# Altium integrated library ADC5G-TDC-FMCP.IntLib: 45 symbols
Pins are listed as number, name and electrical type; pins without a type are passive.

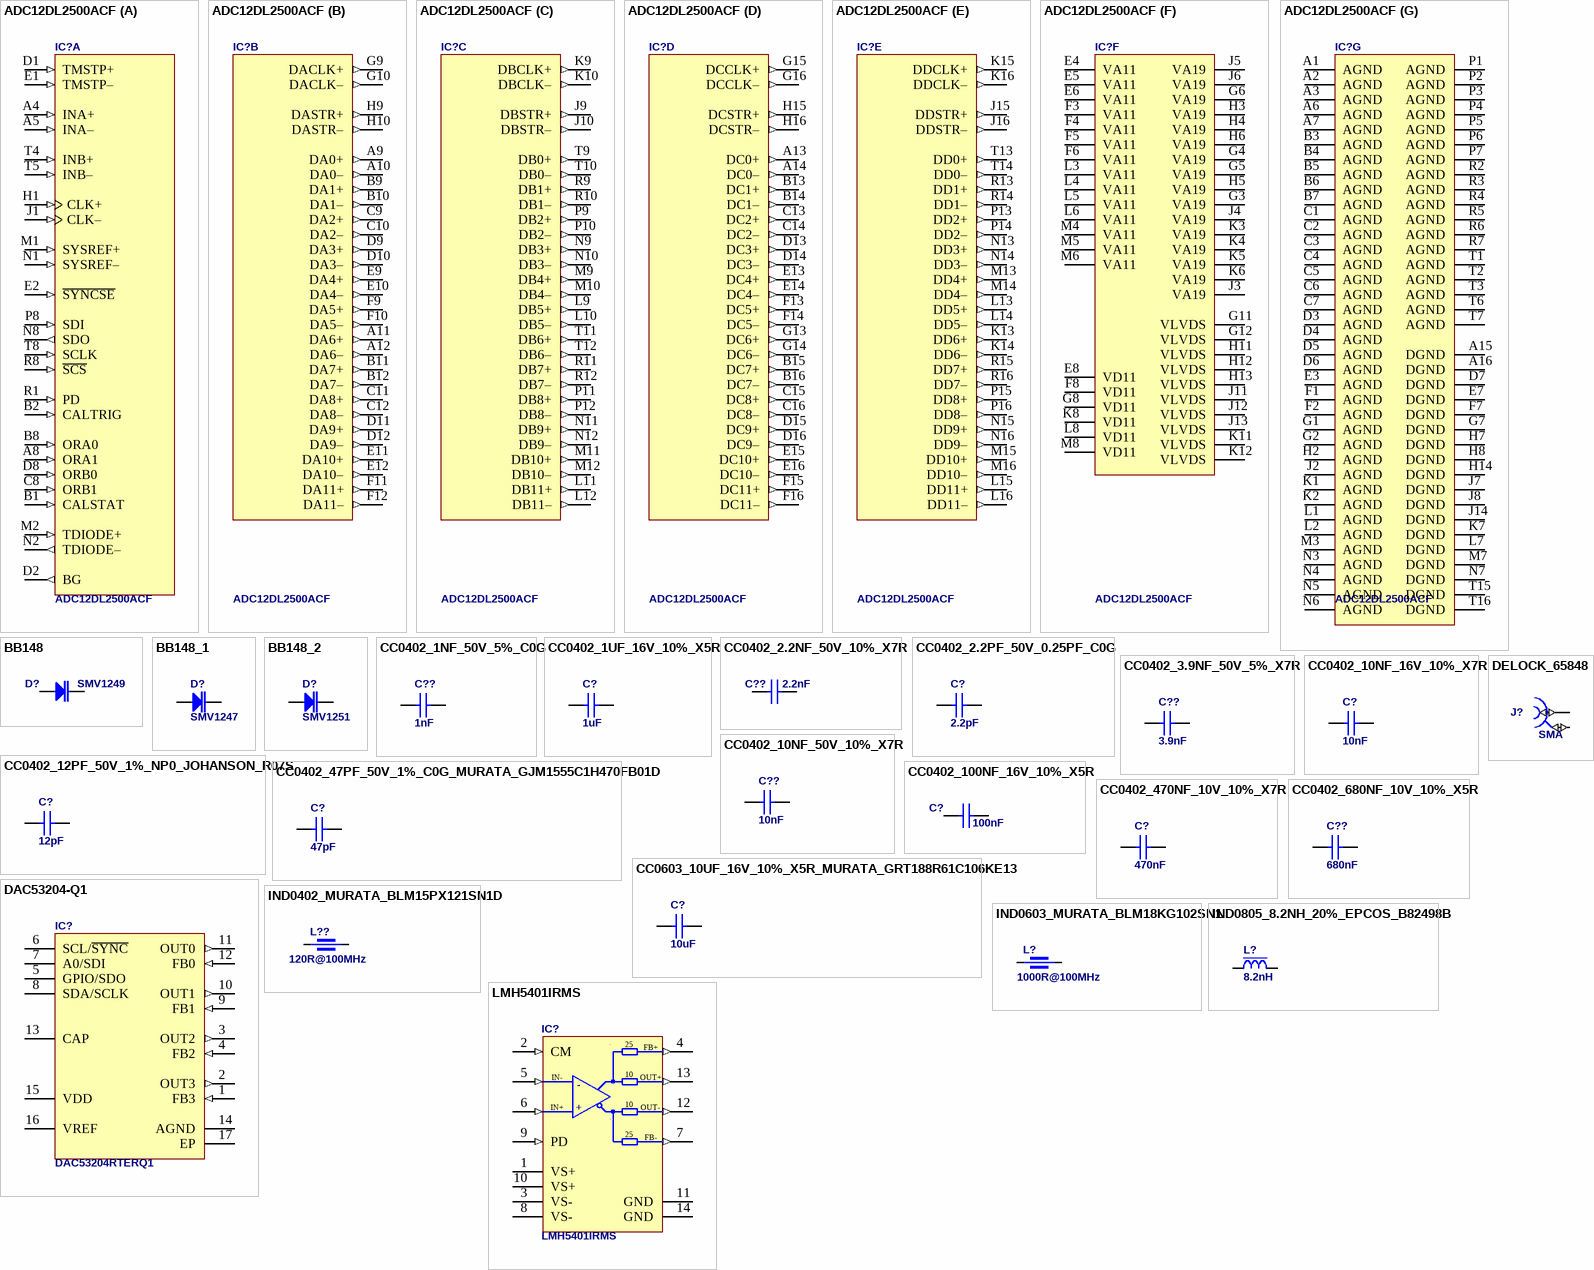
[diagram p0: symbols ADC12DL2500ACF to LMH5401IRMS]

## ADC12DL2500ACF
designator IC?
Single-Supply, Multichannel, 125kSPS, 24-Bit, Sigma-Delta ADC with ±10V Inputs; Part Description: 1.5 GSPS Dual-Channel or 1, 3, 5GSPS Single-Channel,12-Bit Analog-to-Digital Converters (ADC) With LVDS Interface; Manufacturer: TEXAS INSTRUMENTS; PressFit: No; Bonding: No; Part Number: ADC12DL2500ACF; Component Kind: Standard; Component Type: Standard; Device: ADC12DL2500ACF; Footprint: BGA256C100P16X16_1700X1700X331; PackageDescription: BGA, 1.00mm Pitch, Square; 156 Pin, 16 Columns X 16 Rows, 17.0mm X 17.0mm X 3.31mm H body, IPC Medium Density; Manufacturer Part Number: ADC12DL2500ACF; Pin Count: 256; Case: BGA256; Mounted: Yes; Socket: No; SMD: Yes; Sense: No; ComponentHeight: 3.31mm; Author: CERN DEM HF; HelpURL: \\cern.ch\dfs\Applications\Altium\Datasheets\ADC12DLX500ACF.pdf; CreateDate: 04.12.2024; LatestRevisionDate: 04.12.2024
footprint BGA256C100P16X16_1700X1700X331
part A pins: A4 INA+ (in), A5 INA– (in), A8 ORA1 (in), B1 CALSTAT (in), B2 CALTRIG (in), B8 ORA0 (in), C8 ORB1 (in), D1 TMSTP+ (in), D2 BG (out), D8 ORB0 (in), E1 TMSTP– (in), E2 ~{SYNCSE} (in), H1 CLK+ (in), J1 CLK– (in), M1 SYSREF+ (in), M2 TDIODE+ (in), N1 SYSREF– (in), N2 TDIODE– (out), N8 SDO (out), P8 SDI (in), R1 PD (in), R8 ~{SCS} (in), T4 INB+ (in), T5 INB– (in), T8 SCLK (in)
part B pins: A9 DA0+ (out), A10 DA0– (out), A11 DA6+ (out), A12 DA6– (out), B9 DA1+ (out), B10 DA1– (out), B11 DA7+ (out), B12 DA7– (out), C9 DA2+ (out), C10 DA2– (out), C11 DA8+ (out), C12 DA8– (out), D9 DA3+ (out), D10 DA3– (out), D11 DA9+ (out), D12 DA9– (out), E9 DA4+ (out), E10 DA4– (out), E11 DA10+ (out), E12 DA10– (out), F9 DA5+ (out), F10 DA5– (out), F11 DA11+ (out), F12 DA11– (out), G9 DACLK+ (out), G10 DACLK– (out), H9 DASTR+ (out), H10 DASTR– (out)
part C pins: J9 DBSTR+ (out), J10 DBSTR– (out), K9 DBCLK+ (out), K10 DBCLK– (out), L9 DB5+ (out), L10 DB5– (out), L11 DB11+ (out), L12 DB11– (out), M9 DB4+ (out), M10 DB4– (out), M11 DB10+ (out), M12 DB10– (out), N9 DB3+ (out), N10 DB3– (out), N11 DB9+ (out), N12 DB9– (out), P9 DB2+ (out), P10 DB2– (out), P11 DB8+ (out), P12 DB8– (out), R9 DB1+ (out), R10 DB1– (out), R11 DB7+ (out), R12 DB7– (out), T9 DB0+ (out), T10 DB0– (out), T11 DB6+ (out), T12 DB6– (out)
part D pins: A13 DC0+ (out), A14 DC0– (out), B13 DC1+ (out), B14 DC1– (out), B15 DC7+ (out), B16 DC7– (out), C13 DC2+ (out), C14 DC2– (out), C15 DC8+ (out), C16 DC8– (out), D13 DC3+ (out), D14 DC3– (out), D15 DC9+ (out), D16 DC9– (out), E13 DC4+ (out), E14 DC4– (out), E15 DC10+ (out), E16 DC10– (out), F13 DC5+ (out), F14 DC5– (out), F15 DC11+ (out), F16 DC11– (out), G13 DC6+ (out), G14 DC6– (out), G15 DCCLK+ (out), G16 DCCLK– (out), H15 DCSTR+ (out), H16 DCSTR– (out)
part E pins: J15 DDSTR+ (out), J16 DDSTR– (out), K13 DD6+ (out), K14 DD6– (out), K15 DDCLK+ (out), K16 DDCLK– (out), L13 DD5+ (out), L14 DD5– (out), L15 DD11+ (out), L16 DD11– (out), M13 DD4+ (out), M14 DD4– (out), M15 DD10+ (out), M16 DD10– (out), N13 DD3+ (out), N14 DD3– (out), N15 DD9+ (out), N16 DD9– (out), P13 DD2+ (out), P14 DD2– (out), P15 DD8+ (out), P16 DD8– (out), R13 DD1+ (out), R14 DD1– (out), R15 DD7+ (out), R16 DD7– (out), T13 DD0+ (out), T14 DD0– (out)
part F pins: E4 VA11 (power), E5 VA11 (power), E6 VA11 (power), E8 VD11 (power), F3 VA11 (power), F4 VA11 (power), F5 VA11 (power), F6 VA11 (power), F8 VD11 (power), G3 VA19 (power), G4 VA19 (power), G5 VA19 (power), G6 VA19 (power), G8 VD11 (power), G11 VLVDS (power), G12 VLVDS (power), H3 VA19 (power), H4 VA19 (power), H5 VA19 (power), H6 VA19 (power), H11 VLVDS (power), H12 VLVDS (power), H13 VLVDS (power), J3 VA19 (power), J4 VA19 (power), J5 VA19 (power), J6 VA19 (power), J11 VLVDS (power), J12 VLVDS (power), J13 VLVDS (power), K3 VA19 (power), K4 VA19 (power), K5 VA19 (power), K6 VA19 (power), K8 VD11 (power), K11 VLVDS (power), K12 VLVDS (power), L3 VA11 (power), L4 VA11 (power), L5 VA11 (power), L6 VA11 (power), L8 VD11 (power), M4 VA11 (power), M5 VA11 (power), M6 VA11 (power), M8 VD11 (power)
part G pins: A1 AGND (power), A2 AGND (power), A3 AGND (power), A6 AGND (power), A7 AGND (power), A15 DGND (power), A16 DGND (power), B3 AGND (power), B4 AGND (power), B5 AGND (power), B6 AGND (power), B7 AGND (power), C1 AGND (power), C2 AGND (power), C3 AGND (power), C4 AGND (power), C5 AGND (power), C6 AGND (power), C7 AGND (power), D3 AGND (power), D4 AGND (power), D5 AGND (power), D6 AGND (power), D7 DGND (power), E3 AGND (power), E7 DGND (power), F1 AGND (power), F2 AGND (power), F7 DGND (power), G1 AGND (power), G2 AGND (power), G7 DGND (power), H2 AGND (power), H7 DGND (power), H8 DGND (power), H14 DGND (power), J2 AGND (power), J7 DGND (power), J8 DGND (power), J14 DGND (power), K1 AGND (power), K2 AGND (power), K7 DGND (power), L1 AGND (power), L2 AGND (power), L7 DGND (power), M3 AGND (power), M7 DGND (power), N3 AGND (power), N4 AGND (power), N5 AGND (power), N6 AGND (power), N7 DGND (power), P1 AGND (power), P2 AGND (power), P3 AGND (power), P4 AGND (power), P5 AGND (power), P6 AGND (power), P7 AGND (power), R2 AGND (power), R3 AGND (power), R4 AGND (power), R5 AGND (power), R6 AGND (power), R7 AGND (power), T1 AGND (power), T2 AGND (power), T3 AGND (power), T6 AGND (power), T7 AGND (power), T15 DGND (power), T16 DGND (power)

## BB148
designator D?, comment SMV1249
Diode Varicap  Anode Pin 1 Cathode Pin 3 (Pas de pin 2); Part Number: BB148; Part Description: VHF Variable Capacitance Diode; Manufacturer: NXP SEMICONDUCTORS; Voltage: 30V; Power: 20mA; PressFit: No; Bonding: No; Component Kind: Standard; Component Type: Standard; Device: BB148; Footprint: SOD2512X110N; PackageDescription: Small Outline Diode (SOD-323), 1.70mm W X 1.25mm L X 1.10mm H body,  IPC Medium Density; Status: Obsolete; Manufacturer Part Number: BB148; Pin Count: 2; Case: SOD-323; Mounted: Yes; Socket: No; SMD: Yes; Sense: No; ComponentHeight: 1.1mm; HelpURL: \\cern.ch\dfs\Applications\Altium\Datasheets\BB148.pdf; Author: CERN DEM JLC; CreateDate: 13.01.2014; LatestRevisionDate: 13.01.2014
footprint SOD2512X110N
pins: 1 C, 2 A

## BB148_1
designator D?, comment SMV1247
Diode Varicap  Anode Pin 1 Cathode Pin 3 (Pas de pin 2); Part Number: BB148; Part Description: VHF Variable Capacitance Diode; Manufacturer: NXP SEMICONDUCTORS; Voltage: 30V; Power: 20mA; PressFit: No; Bonding: No; Component Kind: Standard; Component Type: Standard; Device: BB148; Footprint: SOD2512X110N; PackageDescription: Small Outline Diode (SOD-323), 1.70mm W X 1.25mm L X 1.10mm H body,  IPC Medium Density; Status: Obsolete; Manufacturer Part Number: BB148; Pin Count: 2; Case: SOD-323; Mounted: Yes; Socket: No; SMD: Yes; Sense: No; ComponentHeight: 1.1mm; HelpURL: \\cern.ch\dfs\Applications\Altium\Datasheets\BB148.pdf; Author: CERN DEM JLC; CreateDate: 13.01.2014; LatestRevisionDate: 13.01.2014
footprint SOD2512X110N
pins: 1 C, 2 A

## BB148_2
designator D?, comment SMV1251
Diode Varicap  Anode Pin 1 Cathode Pin 3 (Pas de pin 2); Part Number: BB148; Part Description: VHF Variable Capacitance Diode; Manufacturer: NXP SEMICONDUCTORS; Voltage: 30V; Power: 20mA; PressFit: No; Bonding: No; Component Kind: Standard; Component Type: Standard; Device: BB148; Footprint: SOD2512X110N; PackageDescription: Small Outline Diode (SOD-323), 1.70mm W X 1.25mm L X 1.10mm H body,  IPC Medium Density; Status: Obsolete; Manufacturer Part Number: BB148; Pin Count: 2; Case: SOD-323; Mounted: Yes; Socket: No; SMD: Yes; Sense: No; ComponentHeight: 1.1mm; HelpURL: \\cern.ch\dfs\Applications\Altium\Datasheets\BB148.pdf; Author: CERN DEM JLC; CreateDate: 13.01.2014; LatestRevisionDate: 13.01.2014
footprint SOD2512X110N
pins: 1 C, 2 A

## CC0402_1NF_50V_5%_C0G
designator C??, comment 1nF
Non-polarised capacitor; Part Number: CC0402_1NF_50V_5%_C0G; Part Description: SMD Multilayer Chip Ceramic Capacitor; Manufacturer: GENERIC; Manufacturer1 Part Number: C0402C102J5GACTU; Voltage: 50V; TC: C0G/NP0; Tolerance: ±5%; Component Kind: Standard; Component Type: Standard; Footprint: CAPC1005X55N; Pin Count: 2; Value: 1nF; Status: Preferred; Manufacturer Part Number: CC0402_1NF_50V_5%_C0G; Case: 0402; Mounted: Yes; Socket: No; SMD: Yes; Sense: No; Manufacturer1 Example: KEMET; Manufacturer1 ComponentHeight: 0.55mm; HelpURL: \\cern.ch\dfs\Applications\Altium\Datasheets\CC0402_C0G_KEMET_(Commercial Grade).pdf; Author: CERN DEM BC; CreateDate: 02.09.2019; LatestRevisionDate: 02.09.2019
footprint CAPC1005X55N
pins: 1, 2

## CC0402_1UF_16V_10%_X5R
designator C?, comment 1uF
Non-polarised capacitor; Part Number: CC0402_1UF_16V_10%_X5R; Part Description: SMD Multilayer Chip Ceramic Capacitor; Manufacturer: GENERIC; Manufacturer1 Part Number: C1005X5R1C105KT; Voltage: 16V; TC: X5R; Tolerance: ±10%; Component Kind: Standard; Component Type: Standard; Footprint: CAPC1005X55N; Pin Count: 2; Value: 1uF; Status: Preferred; Manufacturer Part Number: CC0402_1UF_16V_10%_X5R; Case: 0402; Mounted: Yes; Socket: No; SMD: Yes; Sense: No; Manufacturer1 Example: TDK; Manufacturer1 ComponentHeight: 0.55mm; HelpURL: \\cern.ch\dfs\Applications\Altium\Datasheets\CC0402_X5R_TDK_C.pdf; Author: CERN DEM JLC; CreateDate: 25.10.2012; LatestRevisionDate: 25.10.2012
footprint CAPC1005X55N
pins: 1, 2

## CC0402_2.2NF_50V_10%_X7R
designator C??, comment 2.2nF
Non-polarised capacitor; Part Number: CC0402_2.2NF_50V_10%_X7R; Part Description: SMD Multilayer Chip Ceramic Capacitor; Manufacturer: GENERIC; Manufacturer1 Part Number: 223858715627; Voltage: 50V; TC: X7R; Tolerance: ±10%; Component Kind: Standard; Component Type: Standard; Footprint: CAPC1005X55N; Pin Count: 2; Value: 2.2nF; Status: Not Recommended; Manufacturer Part Number: CC0402_2.2NF_50V_10%_X7R; Case: 0402; Mounted: Yes; Socket: No; SMD: Yes; Sense: No; Manufacturer1 Example: PHYCOMP; Manufacturer1 ComponentHeight: 0.55mm; HelpURL: \\cern.ch\dfs\Applications\Altium\Datasheets\CC0402_X7R_PHYCOMP.pdf; Author: CERN DEM JLC; CreateDate: 03.12.2007; LatestRevisionDate: 03.12.2007
footprint CAPC1005X55N
pins: 1, 2

## CC0402_2.2PF_50V_0.25PF_C0G
designator C?, comment 2.2pF
Non-polarised capacitor; Part Number: CC0402_2.2PF_50V_0.25PF_C0G; Part Description: SMD Multilayer Chip Ceramic Capacitor; Manufacturer: GENERIC; Manufacturer1 Part Number: C0402C229C5GACTU; Voltage: 50V; TC: C0G/NP0; Tolerance: ±0.25pF; Component Kind: Standard; Component Type: Standard; Footprint: CAPC1005X55N; Pin Count: 2; Value: 2.2pF; Status: Preferred; Manufacturer Part Number: CC0402_2.2PF_50V_0.25PF_C0G; Case: 0402; Mounted: Yes; Socket: No; SMD: Yes; Sense: No; Manufacturer1 Example: KEMET; Manufacturer1 ComponentHeight: 0.55mm; HelpURL: \\cern.ch\dfs\Applications\Altium\Datasheets\CC0402_C0G_KEMET_(Commercial Grade).pdf; Author: CERN DEM JLC; CreateDate: 03.12.2007; LatestRevisionDate: 22.04.2015
footprint CAPC1005X55N
pins: 1, 2

## CC0402_3.9NF_50V_5%_X7R
designator C??, comment 3.9nF
Non-polarised capacitor; Part Number: CC0402_3.9NF_50V_5%_X7R; Part Description: SMD Multilayer Chip Ceramic Capacitor; Manufacturer: GENERIC; Manufacturer1 Part Number: CC0402JRX7R9BB392; Voltage: 50V; TC: X7R; Tolerance: ±5%; Component Kind: Standard; Component Type: Standard; Footprint: CAPC1005X55N; Pin Count: 2; Value: 3.9nF; Status: Preferred; Manufacturer Part Number: CC0402_3.9NF_50V_5%_X7R; Case: 0402; Mounted: Yes; Socket: No; SMD: Yes; Sense: No; Manufacturer1 Example: YAGEO PHYCOMP; Manufacturer1 ComponentHeight: 0.55mm; HelpURL: \\cern.ch\dfs\Applications\Altium\Datasheets\CC0402_X7R_YAGEO_6.3VTO50V.pdf; Author: CERN DEM BC; CreateDate: 14.07.2020; LatestRevisionDate: 14.07.2020
footprint CAPC1005X55N
pins: 1, 2

## CC0402_10NF_16V_10%_X7R
designator C?, comment 10nF
Non-polarised capacitor; Part Number: CC0402_10NF_16V_10%_X7R; Part Description: SMD Multilayer Chip Ceramic Capacitor; Manufacturer: GENERIC; Manufacturer1 Part Number: 223878715636; Voltage: 16V; TC: X7R; Tolerance: ±10%; Component Kind: Standard; Component Type: Standard; Footprint: CAPC1005X55N; Pin Count: 2; Value: 10nF; Status: Not Recommended; Manufacturer Part Number: CC0402_10NF_16V_10%_X7R; Case: 0402; Mounted: Yes; Socket: No; SMD: Yes; Sense: No; Manufacturer1 Example: PHYCOMP; Manufacturer1 ComponentHeight: 0.55mm; HelpURL: \\cern.ch\dfs\Applications\Altium\Datasheets\CC0402_X7R_PHYCOMP.pdf; Author: CERN DEM JLC; CreateDate: 03.12.2007; LatestRevisionDate: 03.12.2007
footprint CAPC1005X55N
pins: 1, 2

## CC0402_10NF_50V_10%_X7R
designator C??, comment 10nF
Non-polarised capacitor; Part Number: CC0402_10NF_50V_10%_X7R; Part Description: SMD Multilayer Chip Ceramic Capacitor; Manufacturer: GENERIC; Manufacturer1 Part Number: GRM155R71H103KA88D; Voltage: 50V; TC: X7R; Tolerance: ±10%; Component Kind: Standard; Component Type: Standard; Footprint: CAPC1005X55N; Pin Count: 2; Value: 10nF; Status: None; Manufacturer Part Number: CC0402_10NF_50V_10%_X7R; Case: 0402; Mounted: Yes; Socket: No; SMD: Yes; Sense: No; Manufacturer1 Example: MURATA; Manufacturer1 ComponentHeight: 0.55mm; HelpURL: \\cern.ch\dfs\Applications\Altium\Datasheets\CC0402_X7R_MURATA_GRM.pdf; Author: CERN DEM MR; CreateDate: 08.01.2016; LatestRevisionDate: 08.01.2016
footprint CAPC1005X55N
pins: 1, 2

## CC0402_12PF_50V_1%_NP0_JOHANSON_R07S
designator C?, comment 12pF
Non-polarised capacitor; Part Number: CC0402_12PF_50V_1%_NP0_JOHANSON_R07S; Part Description: Ultra High-Q SMD Multilayer Capacitor; Manufacturer: JOHANSON TECHNOLOGY; Manufacturer Part Number: 500R07S120FV4T; Voltage: 50V; TC: C0G/NP0; Tolerance: ±1%; Component Kind: Standard; Component Type: Standard; Footprint: CAPC1005X61N; Pin Count: 2; Value: 12pF; Status: Not Recommended; Case: 0402; Mounted: Yes; Socket: No; SMD: Yes; Sense: No; ComponentHeight: 0.61mm; HelpURL: \\cern.ch\dfs\Applications\Altium\Datasheets\CC0402_NP0_JOHANSON_R07S.pdf; Author: CERN DEM BC; CreateDate: 20.11.2017; LatestRevisionDate: 26.09.2018
footprint CAPC1005X61N
pins: 1, 2

## CC0402_47PF_50V_1%_C0G_MURATA_GJM1555C1H470FB01D
designator C?, comment 47pF
Non-polarised capacitor; Part Number: CC0402_47PF_50V_1%_C0G_MURATA_GJM1555C1H470FB01D; Part Description: High-Q SMD Chip Monolithic Ceramic Capacitor; Manufacturer: MURATA; Manufacturer Part Number: GJM1555C1H470FB01; Voltage: 50V; TC: C0G/NP0; Tolerance: ±1%; Component Kind: Standard; Component Type: Standard; Footprint: CAPC1005X55N; Pin Count: 2; Value: 47pF; Status: None; Case: 0402; Mounted: Yes; Socket: No; SMD: Yes; Sense: No; ComponentHeight: 0.55mm; HelpURL: \\cern.ch\dfs\Applications\Altium\Datasheets\CC0402_MURATA_GJM1555C1H470FB01D.pdf; Author: CERN DEM BC; CreateDate: 20.11.2017; LatestRevisionDate: 20.11.2017
footprint CAPC1005X55N
pins: 1, 2

## CC0402_100NF_16V_10%_X5R
designator C?, comment 100nF
Non-polarised capacitor; Part Number: CC0402_100NF_16V_10%_X5R; Part Description: SMD Multilayer Chip Ceramic Capacitor; Manufacturer: GENERIC; Manufacturer1 Part Number: GRM155R61C104KA88D; Voltage: 16V; TC: X5R; Tolerance: ±10%; Component Kind: Standard; Component Type: Standard; Footprint: CAPC1005X55N; Pin Count: 2; Value: 100nF; Status: None; Manufacturer Part Number: CC0402_100NF_16V_10%_X5R; Case: 0402; Mounted: Yes; Socket: No; SMD: Yes; Sense: No; Manufacturer1 Example: MURATA; Manufacturer1 ComponentHeight: 0.55mm; HelpURL: \\cern.ch\dfs\Applications\Altium\Datasheets\CC0402_X5R_MURATA_GRM.pdf; Author: CERN DEM JLC; CreateDate: 10.12.2013; LatestRevisionDate: 10.12.2013
footprint CAPC1005X55N
pins: 1, 2

## CC0402_470NF_10V_10%_X7R
designator C?, comment 470nF
Non-polarised capacitor; Part Number: CC0402_470NF_10V_10%_X7R; Part Description: SMD Multilayer Chip Ceramic Capacitor; Manufacturer: GENERIC; Manufacturer1 Part Number: CC0402KRX7R6BB474; Voltage: 10V; TC: X7R; Tolerance: ±10%; Component Kind: Standard; Component Type: Standard; Footprint: CAPC1005X55N; Pin Count: 2; Value: 470nF; Status: Not Recommended; Manufacturer Part Number: CC0402_470NF_10V_10%_X7R; Case: 0402; Mounted: Yes; Socket: No; SMD: Yes; Sense: No; Manufacturer1 Example: YAGEO PHYCOMP; Manufacturer1 ComponentHeight: 0.55mm; HelpURL: \\cern.ch\dfs\Applications\Altium\Datasheets\CC0402_X7R_YAGEO_6.3VTO50V.pdf; Author: CERN DEM BC; CreateDate: 12.11.2019; LatestRevisionDate: 12.11.2019
footprint CAPC1005X55N
pins: 1, 2

## CC0402_680NF_10V_10%_X5R
designator C??, comment 680nF
Non-polarised capacitor; Part Number: CC0402_680NF_10V_10%_X5R; Part Description: SMD Multilayer Chip Ceramic Capacitor; Manufacturer: GENERIC; Manufacturer1 Part Number: GRM155R61A684KE15; Voltage: 10V; TC: X5R; Tolerance: ±10%; Component Kind: Standard; Component Type: Standard; Footprint: CAPC1005X55N; Pin Count: 2; Value: 680nF; Status: None; Manufacturer Part Number: CC0402_680NF_10V_10%_X5R; Case: 0402; Mounted: Yes; Socket: No; SMD: Yes; Sense: No; Manufacturer1 Example: MURATA; Manufacturer1 ComponentHeight: 0.55mm; HelpURL: \\cern.ch\dfs\Applications\Altium\Datasheets\CC0402_X5R_MURATA_GRM.pdf; Author: CERN DEM BC; CreateDate: 19.04.2021; LatestRevisionDate: 19.04.2021
footprint CAPC1005X55N
pins: 1, 2

## CC0603_10UF_16V_10%_X5R_MURATA_GRT188R61C106KE13
designator C?, comment 10uF
Non-polarised capacitor; Part Number: CC0603_10UF_16V_10%_X5R_MURATA_GRT188R61C106KE13; Part Description: AEC-Q200 Compliant Chip Multilayer Ceramic Capacitor; Manufacturer: MURATA; Manufacturer Part Number: GRT188R61C106KE13; Voltage: 16V; TC: X5R; Tolerance: ±10%; Component Kind: Standard; Component Type: Standard; Footprint: CAPC1608X90N; Pin Count: 2; Value: 10uF; Status: None; Case: 0603; Mounted: Yes; Socket: No; SMD: Yes; Sense: No; ComponentHeight: 0.9mm; HelpURL: \\cern.ch\dfs\Applications\Altium\Datasheets\CC0603_MURATA_GRT188R61C106KE13.pdf; Author: CERN DEM HF; CreateDate: 16.06.2022; LatestRevisionDate: 17.06.2022
footprint CAPC1608X90N
pins: 1, 2

## DAC53204-Q1
designator IC?, comment DAC53204RTERQ1
Digital to Analog Converters - DAC Automotive, 10-bit 4-channel voltage/current output smart DAC with Hi-Z, EEPROM, waveform generator 16-WQFN -40 to 125
pins: 1 FB3 (in), 2 OUT3 (out), 3 OUT2 (out), 4 FB2 (in), 5 GPIO/SDO, 6 SCL/~{SYNC}, 7 A0/SDI, 8 SDA/SCLK, 9 FB1 (in), 10 OUT1 (out), 11 OUT0 (out), 12 FB0 (in), 13 CAP, 14 AGND (power), 15 VDD (power), 16 VREF, 17 EP (power)

## DELOCK_65848
designator J?, comment SMA
50 Ohm Through Hole SMA Right Angle PCB Jack; Part Number: DELOCK_65848; Manufacturer: DELOCK; Manufacturer Part Number: 5848 (4043619658480); PressFit: No; Component Kind: Standard; Component Type: Standard; Footprint: DELOCK_65848; Pin Count: 5; Family: SMA; Mounted: Yes; Socket: No; SMD: No; Sense: No; Status: None; Part Description: 50 Ohm Through Hole SMA Right Angle PCB Jack; ComponentHeight: 12.5; HelpURL: \\cern.ch\dfs\Applications\Altium\Datasheets\AMPHENOL_132203-16.pdf; Author: GK; CreateDate: 13.05.2019; LatestRevisionDate: 13.05.2019
footprint DELOCK_65848 (Footprint not found)
pins: 1 (io), 2 (io)

## IND0402_MURATA_BLM15PX121SN1D
designator L??, comment 120R@100MHz
Part Number: IND0402_MURATA_BLM15PX121SN1D; Part Description: SMD EMIFIL Chip Ferrite Bead; Manufacturer: MURATA; Manufacturer Part Number: BLM15PX121SN1D; Power: 2A; Resistance: 0.055R; Tolerance: ±25%; Component Kind: Standard; Component Type: Standard; Footprint: INDC1005X55N; Pin Count: 2; Value: 120R@100MHz; Case: 0402; Mounted: Yes; Socket: No; SMD: Yes; Sense: No; ComponentHeight: 0.55mm; HelpURL: \\cern.ch\dfs\Applications\Altium\Datasheets\IND0402_MURATA_BLM15PX.pdf; Author: CERN DEM JMW; CreateDate: 19.02.2014; LatestRevisionDate: 25.10.2018
footprint INDC1005X55N
pins: 1, 2
1 alternate drawing of the same symbol

## IND0603_MURATA_BLM18KG102SN1
designator L?, comment 1000R@100MHz
Part Number: IND0603_MURATA_BLM18KG102SN1; Part Description: SMD Chip Ferrite Bead, Automotive; Manufacturer: MURATA; Manufacturer Part Number: BLM18KG102WH1; Power: 1A; Resistance: 0.2R; Tolerance: ±25%; Component Kind: Standard; Component Type: Standard; Footprint: INDC1608X95N; Pin Count: 2; Value: 1000R@100MHz; Case: 0603; Mounted: Yes; Socket: No; SMD: Yes; Sense: No; ComponentHeight: 0.95mm; HelpURL: \\cern.ch\dfs\Applications\Altium\Datasheets\IND0603_MURATA_BLM18KG102SN1.pdf; Author: CERN DEM HF; CreateDate: 15.12.2022; LatestRevisionDate: 15.12.2022
footprint INDC1608X95N
pins: 1, 2
1 alternate drawing of the same symbol

## IND0805_8.2NH_20%_EPCOS_B82498B
designator L?, comment 8.2nH
Inductor With Core; Part Number: IND0805_8.2NH_20%_EPCOS_B82498B; Part Description: SMT Inductor SIMID Series; Manufacturer: EPCOS; Manufacturer Part Number: B82498B3829M; Power: 700mA; Resistance: 0.06R; Tolerance: ±20%; Component Kind: Standard; Component Type: Standard; Footprint: INDC2014X145N; Pin Count: 2; Value: 8.2nH; Status: Preferred; Case: 0805; Mounted: Yes; Socket: No; SMD: Yes; Sense: No; ComponentHeight: 1.45mm; HelpURL: \\cern.ch\dfs\Applications\Altium\Datasheets\IND0805_EPCOS_B82498B.pdf; Author: CERN DEM JLC; CreateDate: 11.02.2008; LatestRevisionDate: 26.06.2008
footprint INDC2014X145N
pins: 1, 2

## LMH5401IRMS
designator IC?
Low-Noise, Low-Power, 8-GHz Fully Differential Amplifier; Manufacturer: TEXAS INSTRUMENTS; PressFit: No; Bonding: No; Part Number: LMH5401IRMS; Component Kind: Standard; Component Type: Standard; Device: LMH5401IRMS; Footprint: QFN50P250X250X60-14N; PackageDescription: QFN, 0.50mm Pitch, Square, 14 pin, 2.50mm L X 2.50mm W X 0.60mm H body, IPC Medium Density; Part Description: Low-Noise, Low-Power, 8-GHz Fully Differential Amplifier; Manufacturer Part Number: LMH5401IRMS; Pin Count: 14; Case: QFN14; Mounted: Yes; Socket: No; SMD: Yes; Sense: No; ComponentHeight: 0.6mm; Author: CERN DEM MR; HelpURL: \\cern.ch\dfs\Applications\Altium\Datasheets\LMH5401IRMS.pdf; CreateDate: 08.08.2019; LatestRevisionDate: 08.08.2019
footprint QFN50P250X250X60-14N
pins: 1 VS+ (power), 2 CM (in), 3 VS- (power), 4 FB+ (out), 5 IN- (in), 6 IN+ (in), 7 FB- (out), 8 VS- (power), 9 PD (in), 10 VS+ (power), 11 GND (power), 12 OUT- (out), 13 OUT+ (out), 14 GND (power)
text: 25; -; +

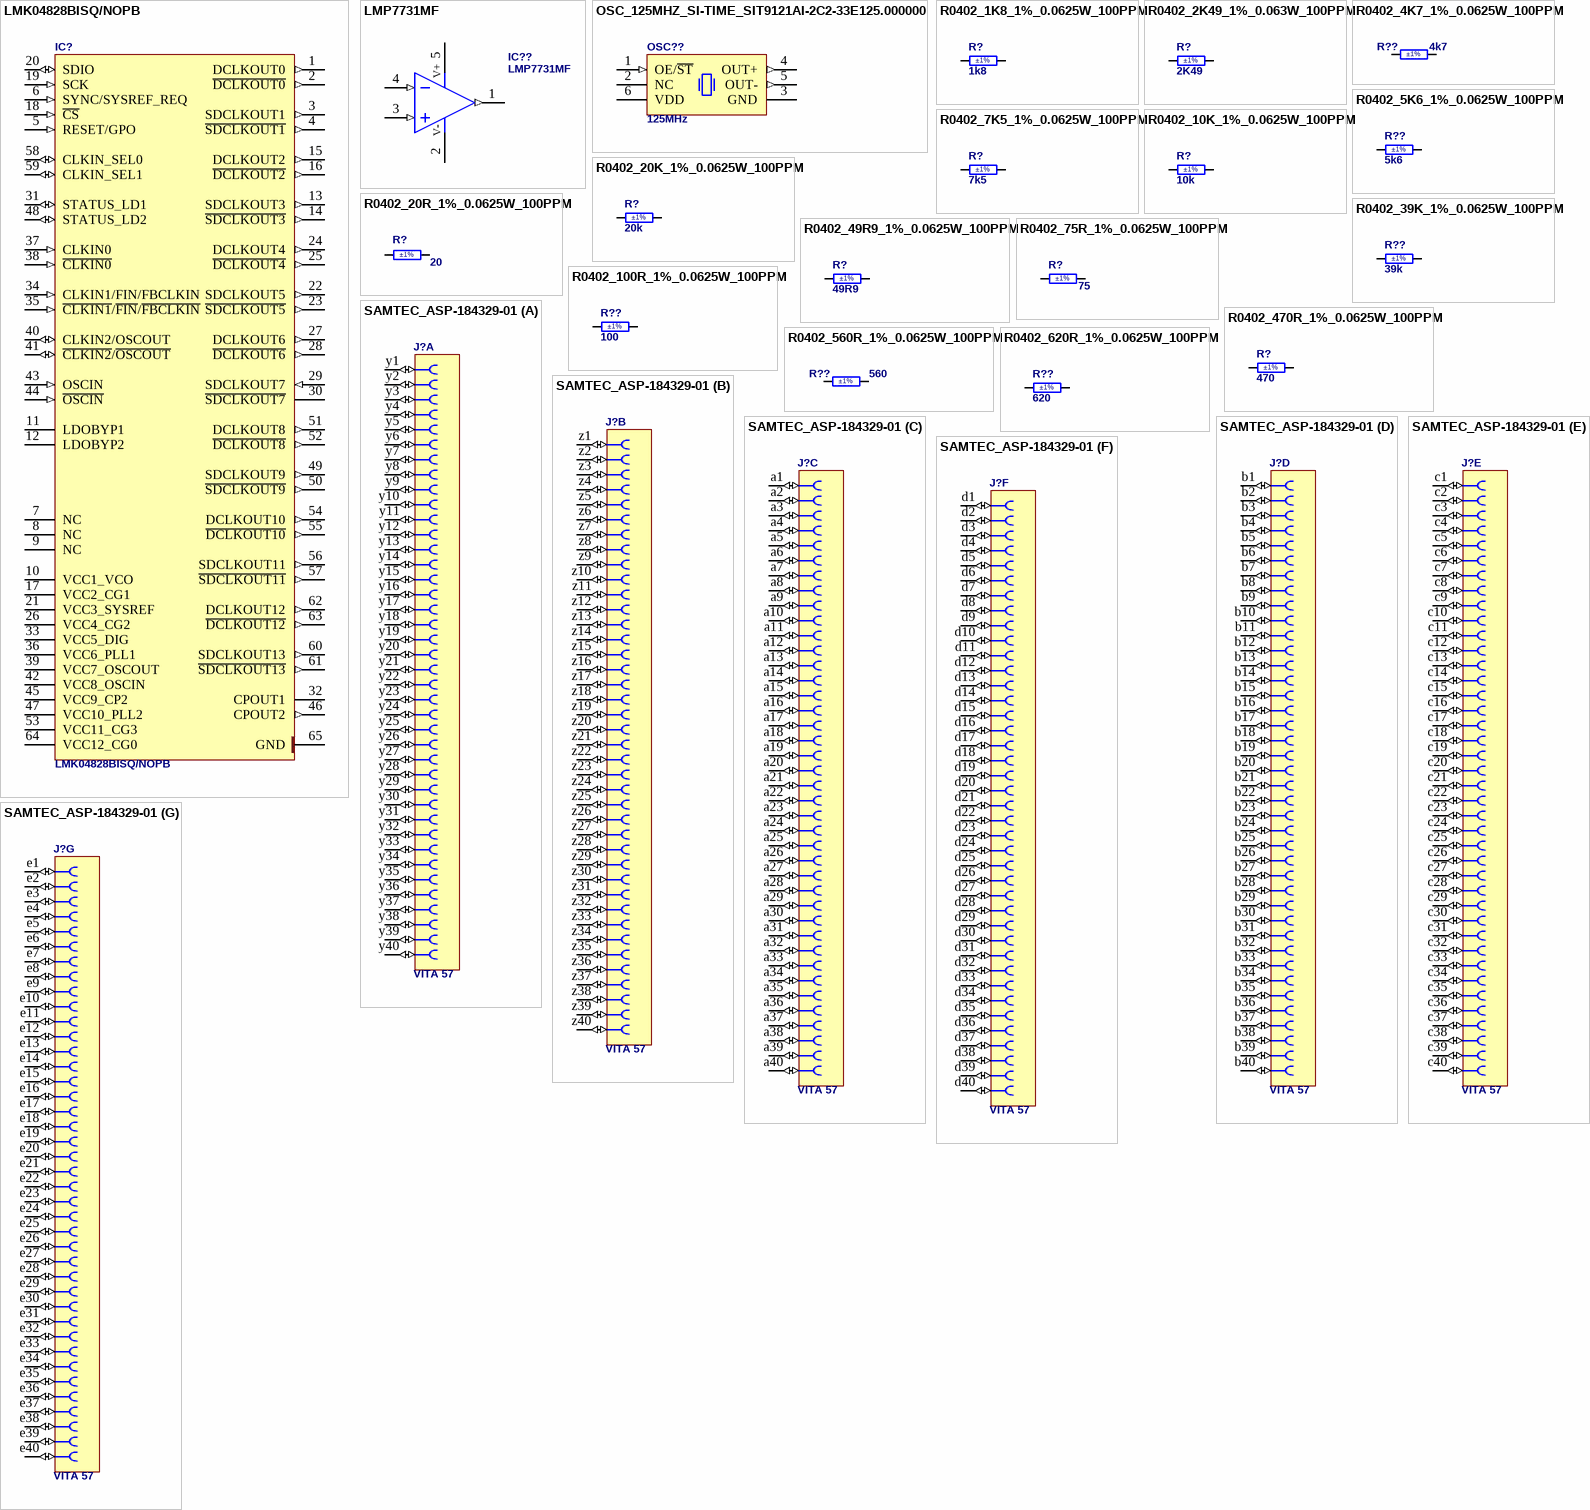
[diagram p1: symbols LMK04828BISQ/NOPB to SAMTEC_ASP-184329-01]

## LMK04828BISQ/NOPB
designator IC?
Ultra Low-Noise Clock Jitter Cleaner with Dual Loop PLLs; Manufacturer: TEXAS INSTRUMENTS; PressFit: No; Bonding: No; Part Number: LMK04828BISQ/NOPB; Component Kind: Standard; Component Type: Standard; Device: LMK04828BISQ/NOPB; Footprint: QFN50P900X900X80-65N-S730; PackageDescription: QFN, 0.50mm Pitch, Square; 64 Pin, 9.00mm L X 9.00mm W X 0.80mm H body (w/Thermal Tab 7.30 X 7.30mm), IPC Medium Density; Part Description: Ultra Low-Noise Clock Jitter Cleaner with Dual Loop PLLs; Manufacturer Part Number: LMK04828BISQ; Pin Count: 65; Case: QFN64; Mounted: Yes; Socket: No; SMD: Yes; Sense: No; ComponentHeight: 0.8mm; Author: CERN DEM MR; HelpURL: \\cern.ch\dfs\Applications\Altium\Datasheets\LMK04828BISQ-NOPB.pdf; CreateDate: 08.08.2019; LatestRevisionDate: 01.06.2022
footprint QFN50P900X900X80-65N-S730
pins: 1 DCLKOUT0 (out), 2 ~{DCLKOUT0} (out), 3 SDCLKOUT1 (out), 4 ~{SDCLKOUT1} (out), 5 RESET/GPO (in), 6 SYNC/SYSREF_REQ (in), 7 NC, 8 NC, 9 NC, 10 VCC1_VCO (power), 11 LDOBYP1, 12 LDOBYP2, 13 SDCLKOUT3 (out), 14 ~{SDCLKOUT3} (out), 15 DCLKOUT2 (out), 16 ~{DCLKOUT2} (out), 17 VCC2_CG1 (power), 18 ~{CS} (in), 19 SCK (in), 20 SDIO (io), 21 VCC3_SYSREF (power), 22 SDCLKOUT5 (out), 23 ~{SDCLKOUT5} (out), 24 DCLKOUT4 (out), 25 ~{DCLKOUT4} (out), 26 VCC4_CG2 (power), 27 DCLKOUT6 (out), 28 ~{DCLKOUT6} (out), 29 SDCLKOUT7 (in), 30 ~{SDCLKOUT7} (power), 31 STATUS_LD1 (io), 32 CPOUT1, 33 VCC5_DIG (power), 34 CLKIN1/FIN/FBCLKIN (in), 35 ~{CLKIN1}/~{FIN}/~{FBCLKIN} (in), 36 VCC6_PLL1 (power), 37 CLKIN0 (in), 38 ~{CLKIN0} (in), 39 VCC7_OSCOUT (power), 40 CLKIN2/OSCOUT (io), 41 ~{CLKIN2}/~{OSCOUT} (io), 42 VCC8_OSCIN (power), 43 OSCIN (in), 44 ~{OSCIN} (in), 45 VCC9_CP2 (power), 46 CPOUT2 (out), 47 VCC10_PLL2 (power), 48 STATUS_LD2 (io), 49 SDCLKOUT9 (out), 50 ~{SDCLKOUT9} (out), 51 DCLKOUT8 (out), 52 ~{DCLKOUT8} (out), 53 VCC11_CG3 (power), 54 DCLKOUT10 (out), 55 ~{DCLKOUT10} (out), 56 SDCLKOUT11 (out), 57 ~{SDCLKOUT11} (out), 58 CLKIN_SEL0 (io), 59 CLKIN_SEL1 (io), 60 SDCLKOUT13 (out), 61 ~{SDCLKOUT13} (out), 62 DCLKOUT12 (out), 63 ~{DCLKOUT12} (out), 64 VCC12_CG0 (power), 65 GND (power)

## LMP7731MF
designator IC??
Single 2.9 nV/sqrt(Hz) Low Noise, Precision, Rail-to-Rail Input/Output Amplifier; Manufacturer: TEXAS INSTRUMENTS; PressFit: No; Bonding: No; Part Number: LMP7731MF; Component Kind: Standard; Component Type: Standard; Device: LMP7731MF; Footprint: SOT95P280X145-5N; PackageDescription: SOT, 0.95mm Pitch; 5 Pin, 1.60mm W X 2.90mm L X 1.45mm H body, IPC Medium Density; Part Description: Single 2.9 nV/sqrt(Hz) Low Noise, Precision, Rail-to-Rail Input/Output Amplifier; Manufacturer Part Number: LMP7731MF; Pin Count: 5; Case: SOT23-5; Mounted: Yes; Socket: No; SMD: Yes; Sense: No; ComponentHeight: 1.45mm; Author: CERN DEM HF; HelpURL: \\cern.ch\dfs\Applications\Altium\Datasheets\LMP7731.pdf; CreateDate: 09.05.2022; LatestRevisionDate: 09.05.2022
footprint SOT95P280X145-5N
pins: 1 OUT (out), 2 V- (power), 3 IN+ (in), 4 IN- (in), 5 V+ (power)
1 alternate drawing of the same symbol

## OSC_125MHZ_SI-TIME_SIT9121AI-2C2-33E125.000000
designator OSC??, comment 125MHz
Standard Frequency Differential Oscillator; Part Number: OSC_125MHZ_SI-TIME_SIT9121AI-2C2-33E125.000000; Part Description: 3.3V, ±25ppm, -40..85°C, 3.2x5.0mm Surface Mount LVDS High Performance Differential Oscillator (SIT9121 Series); Manufacturer: SI TIME; Manufacturer Part Number: SIT9121AI-2C2-33E125.000000; PressFit: No; Bonding: No; Component Kind: Standard; Component Type: Standard; Footprint: OSC_SI-TIME_SIT9121-C; PackageDescription: SiT9121 Series Package C, Oscillators, Version 3.2.0mm x 5.0mm, Pitch 1.27mm; 6 Pin; Value: 125MHz; Pin Count: 6; Mounted: Yes; Socket: No; SMD: Yes; Sense: No; ComponentHeight: 0.8mm; HelpURL: \\cern.ch\dfs\Applications\Altium\Datasheets\OSC_SI-TIME_SIT9121.pdf; Author: CERN DEM HF; CreateDate: 06.12.2024; LatestRevisionDate: 06.12.2024
footprint OSC_SI-TIME_SIT9121-C
pins: 1 OE/~{ST} (in), 2 NC, 3 GND (power), 4 OUT+ (out), 5 OUT- (out), 6 VDD (power)

## R0402_1K8_1%_0.0625W_100PPM
designator R?, comment 1k8  Tolerance: ±1%
Resistor - 1%; Part Number: R0402_1K8_1%_0.0625W_100PPM; Part Description: General Purpose Thick Film Chip Resistor; Manufacturer: GENERIC; Manufacturer1 Part Number: 232270671802L; Power: 0.0625W; TC: ±100ppm/°C; PressFit: No; Component Kind: Standard; Component Type: Standard; Footprint: RESC1005X40N; Pin Count: 2; Value: 1k8; Status: Not Recommended; Manufacturer Part Number: R0402_1K8_1%_0.0625W_100PPM; Case: 0402; Mounted: Yes; Sense: No; Socket: No; SMD: Yes; Manufacturer1 Example: YAGEO PHYCOMP; Manufacturer1 ComponentHeight: 0.4mm; HelpURL: \\cern.ch\dfs\Applications\Altium\Datasheets\R0402_Phycomp_RC0402.pdf; Author: CERN DEM JLC; CreateDate: 03.12.2007; LatestRevisionDate: 17.10.2012
footprint RESC1005X40N
pins: 1, 2

## R0402_2K49_1%_0.063W_100PPM
designator R?, comment 2K49  Tolerance: ±1%
Resistor - 1%; Part Number: R0402_2K49_1%_0.063W_100PPM; Part Description: General Purpose Thick Film Chip Resistor; Manufacturer: GENERIC; Manufacturer1 Part Number: CRCW04022K49FK; Power: 0.063W; TC: ±100ppm/°C; PressFit: No; Component Kind: Standard; Component Type: Standard; Footprint: RESC1005X40N; Pin Count: 2; Value: 2K49; Status: None; Manufacturer Part Number: R0402_2K49_1%_0.063W_100PPM; Case: 0402; Mounted: Yes; Sense: No; Socket: No; SMD: Yes; Manufacturer1 Example: VISHAY; Manufacturer1 ComponentHeight: 0.4mm; HelpURL: \\cern.ch\dfs\Applications\Altium\Datasheets\R0402_VISHAY_CRCW e3.pdf; Author: CERN DEM BC; CreateDate: 10.01.2020; LatestRevisionDate: 10.01.2020
footprint RESC1005X40N
pins: 1, 2

## R0402_4K7_1%_0.0625W_100PPM
designator R??, comment 4k7  Tolerance: ±1%
Resistor - 1%; Part Number: R0402_4K7_1%_0.0625W_100PPM; Part Description: General Purpose Thick Film Chip Resistor; Manufacturer: GENERIC; Manufacturer1 Part Number: 232270674702L; Power: 0.0625W; TC: ±100ppm/°C; PressFit: No; Component Kind: Standard; Component Type: Standard; Footprint: RESC1005X40N; Pin Count: 2; Value: 4k7; Status: Not Recommended; Manufacturer Part Number: R0402_4K7_1%_0.0625W_100PPM; Case: 0402; Mounted: Yes; Sense: No; Socket: No; SMD: Yes; Manufacturer1 Example: YAGEO PHYCOMP; Manufacturer1 ComponentHeight: 0.4mm; HelpURL: \\cern.ch\dfs\Applications\Altium\Datasheets\R0402_Phycomp_RC0402.pdf; Author: CERN DEM JLC; CreateDate: 03.12.2007; LatestRevisionDate: 17.10.2012
footprint RESC1005X40N
pins: 1, 2

## R0402_5K6_1%_0.0625W_100PPM
designator R??, comment 5k6  Tolerance: ±1%
Resistor - 1%; Part Number: R0402_5K6_1%_0.0625W_100PPM; Part Description: General Purpose Thick Film Chip Resistor; Manufacturer: GENERIC; Manufacturer1 Part Number: 232270675602L; Power: 0.0625W; TC: ±100ppm/°C; PressFit: No; Component Kind: Standard; Component Type: Standard; Footprint: RESC1005X40N; Pin Count: 2; Value: 5k6; Status: Not Recommended; Manufacturer Part Number: R0402_5K6_1%_0.0625W_100PPM; Case: 0402; Mounted: Yes; Sense: No; Socket: No; SMD: Yes; Manufacturer1 Example: YAGEO PHYCOMP; Manufacturer1 ComponentHeight: 0.4mm; HelpURL: \\cern.ch\dfs\Applications\Altium\Datasheets\R0402_Phycomp_RC0402.pdf; Author: CERN DEM JLC; CreateDate: 03.12.2007; LatestRevisionDate: 17.10.2012
footprint RESC1005X40N
pins: 1, 2

## R0402_7K5_1%_0.0625W_100PPM
designator R?, comment 7k5  Tolerance: ±1%
Resistor - 1%; Part Number: R0402_7K5_1%_0.0625W_100PPM; Part Description: General Purpose Thick Film Chip Resistor; Manufacturer: GENERIC; Manufacturer1 Part Number: 232270677502L; Power: 0.0625W; TC: ±100ppm/°C; PressFit: No; Component Kind: Standard; Component Type: Standard; Footprint: RESC1005X40N; Pin Count: 2; Value: 7k5; Status: Not Recommended; Manufacturer Part Number: R0402_7K5_1%_0.0625W_100PPM; Case: 0402; Mounted: Yes; Sense: No; Socket: No; SMD: Yes; Manufacturer1 Example: YAGEO PHYCOMP; Manufacturer1 ComponentHeight: 0.4mm; HelpURL: \\cern.ch\dfs\Applications\Altium\Datasheets\R0402_Phycomp_RC0402.pdf; Author: CERN DEM JLC; CreateDate: 03.12.2007; LatestRevisionDate: 17.10.2012
footprint RESC1005X40N
pins: 1, 2

## R0402_10K_1%_0.0625W_100PPM
designator R?, comment 10k  Tolerance: ±1%
Resistor - 1%; Part Number: R0402_10K_1%_0.0625W_100PPM; Part Description: General Purpose Thick Film Chip Resistor; Manufacturer: GENERIC; Manufacturer1 Part Number: 232270671003L; Power: 0.0625W; TC: ±100ppm/°C; PressFit: No; Component Kind: Standard; Component Type: Standard; Footprint: RESC1005X40N; Pin Count: 2; Value: 10k; Status: Not Recommended; Manufacturer Part Number: R0402_10K_1%_0.0625W_100PPM; Case: 0402; Mounted: Yes; Sense: No; Socket: No; SMD: Yes; Manufacturer1 Example: YAGEO PHYCOMP; Manufacturer1 ComponentHeight: 0.4mm; HelpURL: \\cern.ch\dfs\Applications\Altium\Datasheets\R0402_Phycomp_RC0402.pdf; Author: CERN DEM JLC; CreateDate: 03.12.2007; LatestRevisionDate: 17.10.2012
footprint RESC1005X40N
pins: 1, 2

## R0402_20K_1%_0.0625W_100PPM
designator R?, comment 20k  Tolerance: ±1%
Resistor - 1%; Part Number: R0402_20K_1%_0.0625W_100PPM; Part Description: General Purpose Thick Film Chip Resistor; Manufacturer: GENERIC; Manufacturer1 Part Number: 232270672003L; Power: 0.0625W; TC: ±100ppm/°C; PressFit: No; Component Kind: Standard; Component Type: Standard; Footprint: RESC1005X40N; Pin Count: 2; Value: 20k; Status: Not Recommended; Manufacturer Part Number: R0402_20K_1%_0.0625W_100PPM; Case: 0402; Mounted: Yes; Sense: No; Socket: No; SMD: Yes; Manufacturer1 Example: YAGEO PHYCOMP; Manufacturer1 ComponentHeight: 0.4mm; HelpURL: \\cern.ch\dfs\Applications\Altium\Datasheets\R0402_Phycomp_RC0402.pdf; Author: CERN DEM JLC; CreateDate: 03.12.2007; LatestRevisionDate: 17.10.2012
footprint RESC1005X40N
pins: 1, 2

## R0402_20R_1%_0.0625W_100PPM
designator R?, comment 20  Tolerance: ±1%
Resistor - 1%; Part Number: R0402_20R_1%_0.0625W_100PPM; Part Description: General Purpose Thick Film Chip Resistor; Manufacturer: GENERIC; Manufacturer1 Part Number: 232270672009L; Power: 0.0625W; TC: ±100ppm/°C; PressFit: No; Component Kind: Standard; Component Type: Standard; Footprint: RESC1005X40N; Pin Count: 2; Value: 20; Status: Not Recommended; Manufacturer Part Number: R0402_20R_1%_0.0625W_100PPM; Case: 0402; Mounted: Yes; Sense: No; Socket: No; SMD: Yes; Manufacturer1 Example: YAGEO PHYCOMP; Manufacturer1 ComponentHeight: 0.4mm; HelpURL: \\cern.ch\dfs\Applications\Altium\Datasheets\R0402_Phycomp_RC0402.pdf; Author: CERN DEM JLC; CreateDate: 03.12.2007; LatestRevisionDate: 17.10.2012
footprint RESC1005X40N
pins: 1, 2

## R0402_39K_1%_0.0625W_100PPM
designator R??, comment 39k  Tolerance: ±1%
Resistor - 1%; Part Number: R0402_39K_1%_0.0625W_100PPM; Part Description: General Purpose Thick Film Chip Resistor; Manufacturer: GENERIC; Manufacturer1 Part Number: 232270673903; Power: 0.0625W; TC: ±100ppm/°C; PressFit: No; Component Kind: Standard; Component Type: Standard; Footprint: RESC1005X40N; Pin Count: 2; Value: 39k; Status: Not Recommended; Manufacturer Part Number: R0402_39K_1%_0.0625W_100PPM; Case: 0402; Mounted: Yes; Sense: No; Socket: No; SMD: Yes; Manufacturer1 Example: YAGEO PHYCOMP; Manufacturer1 ComponentHeight: 0.4mm; HelpURL: \\cern.ch\dfs\Applications\Altium\Datasheets\R0402_Phycomp_RC0402.pdf; Author: CERN DEM JLC; CreateDate: 03.12.2007; LatestRevisionDate: 17.10.2012
footprint RESC1005X40N
pins: 1, 2

## R0402_49R9_1%_0.0625W_100PPM
designator R?, comment 49R9  Tolerance: ±1%
Resistor - 1%; Part Number: R0402_49R9_1%_0.0625W_100PPM; Part Description: General Purpose Thick Film Chip Resistor; Manufacturer: GENERIC; Manufacturer1 Part Number: 232270674999L or RC0402FR-0749R9L; Power: 0.0625W; TC: ±100ppm/°C; PressFit: No; Component Kind: Standard; Component Type: Standard; Footprint: RESC1005X40N; Pin Count: 2; Value: 49R9; Status: Not Recommended; Manufacturer Part Number: R0402_49R9_1%_0.0625W_100PPM; Case: 0402; Mounted: Yes; Sense: No; Socket: No; SMD: Yes; Manufacturer1 Example: YAGEO PHYCOMP; Manufacturer1 ComponentHeight: 0.4mm; HelpURL: \\cern.ch\dfs\Applications\Altium\Datasheets\R0402_Phycomp_RC0402.pdf; Author: CERN DEM JLC; CreateDate: 24.10.2012; LatestRevisionDate: 24.10.2012
footprint RESC1005X40N
pins: 1, 2

## R0402_75R_1%_0.0625W_100PPM
designator R?, comment 75  Tolerance: ±1%
Resistor - 1%; Part Number: R0402_75R_1%_0.0625W_100PPM; Part Description: General Purpose Thick Film Chip Resistor; Manufacturer: GENERIC; Manufacturer1 Part Number: 232270677509L; Power: 0.0625W; TC: ±100ppm/°C; PressFit: No; Component Kind: Standard; Component Type: Standard; Footprint: RESC1005X40N; Pin Count: 2; Value: 75; Status: Not Recommended; Manufacturer Part Number: R0402_75R_1%_0.0625W_100PPM; Case: 0402; Mounted: Yes; Sense: No; Socket: No; SMD: Yes; Manufacturer1 Example: YAGEO PHYCOMP; Manufacturer1 ComponentHeight: 0.4mm; HelpURL: \\cern.ch\dfs\Applications\Altium\Datasheets\R0402_Phycomp_RC0402.pdf; Author: CERN DEM JLC; CreateDate: 03.12.2007; LatestRevisionDate: 17.10.2012
footprint RESC1005X40N
pins: 1, 2

## R0402_100R_1%_0.0625W_100PPM
designator R??, comment 100  Tolerance: ±1%
Resistor - 1%; Part Number: R0402_100R_1%_0.0625W_100PPM; Part Description: General Purpose Thick Film Chip Resistor; Manufacturer: GENERIC; Manufacturer1 Part Number: 232270671001L; Power: 0.0625W; TC: ±100ppm/°C; PressFit: No; Component Kind: Standard; Component Type: Standard; Footprint: RESC1005X40N; Pin Count: 2; Value: 100; Status: Not Recommended; Manufacturer Part Number: R0402_100R_1%_0.0625W_100PPM; Case: 0402; Mounted: Yes; Sense: No; Socket: No; SMD: Yes; Manufacturer1 Example: YAGEO PHYCOMP; Manufacturer1 ComponentHeight: 0.4mm; HelpURL: \\cern.ch\dfs\Applications\Altium\Datasheets\R0402_Phycomp_RC0402.pdf; Author: CERN DEM JLC; CreateDate: 03.12.2007; LatestRevisionDate: 17.10.2012
footprint RESC1005X40N
pins: 1, 2

## R0402_470R_1%_0.0625W_100PPM
designator R?, comment 470  Tolerance: ±1%
Resistor - 1%; Part Number: R0402_470R_1%_0.0625W_100PPM; Part Description: General Purpose Thick Film Chip Resistor; Manufacturer: GENERIC; Manufacturer1 Part Number: 232270674701L; Power: 0.0625W; TC: ±100ppm/°C; PressFit: No; Component Kind: Standard; Component Type: Standard; Footprint: RESC1005X40N; Pin Count: 2; Value: 470; Status: Not Recommended; Manufacturer Part Number: R0402_470R_1%_0.0625W_100PPM; Case: 0402; Mounted: Yes; Sense: No; Socket: No; SMD: Yes; Manufacturer1 Example: YAGEO PHYCOMP; Manufacturer1 ComponentHeight: 0.4mm; HelpURL: \\cern.ch\dfs\Applications\Altium\Datasheets\R0402_Phycomp_RC0402.pdf; Author: CERN DEM JLC; CreateDate: 03.12.2007; LatestRevisionDate: 17.10.2012
footprint RESC1005X40N
pins: 1, 2

## R0402_560R_1%_0.0625W_100PPM
designator R??, comment 560  Tolerance: ±1%
Resistor - 1%; Part Number: R0402_560R_1%_0.0625W_100PPM; Part Description: General Purpose Thick Film Chip Resistor; Manufacturer: GENERIC; Manufacturer1 Part Number: 232270675601L; Power: 0.0625W; TC: ±100ppm/°C; PressFit: No; Component Kind: Standard; Component Type: Standard; Footprint: RESC1005X40N; Pin Count: 2; Value: 560; Status: Not Recommended; Manufacturer Part Number: R0402_560R_1%_0.0625W_100PPM; Case: 0402; Mounted: Yes; Sense: No; Socket: No; SMD: Yes; Manufacturer1 Example: YAGEO PHYCOMP; Manufacturer1 ComponentHeight: 0.4mm; HelpURL: \\cern.ch\dfs\Applications\Altium\Datasheets\R0402_Phycomp_RC0402.pdf; Author: CERN DEM JLC; CreateDate: 03.12.2007; LatestRevisionDate: 17.10.2012
footprint RESC1005X40N
pins: 1, 2

## R0402_620R_1%_0.0625W_100PPM
designator R??, comment 620  Tolerance: ±1%
Resistor - 1%; Part Number: R0402_620R_1%_0.0625W_100PPM; Part Description: General Purpose Thick Film Chip Resistor; Manufacturer: GENERIC; Manufacturer1 Part Number: 232270676201L; Power: 0.0625W; TC: ±100ppm/°C; PressFit: No; Component Kind: Standard; Component Type: Standard; Footprint: RESC1005X40N; Pin Count: 2; Value: 620; Status: Not Recommended; Manufacturer Part Number: R0402_620R_1%_0.0625W_100PPM; Case: 0402; Mounted: Yes; Sense: No; Socket: No; SMD: Yes; Manufacturer1 Example: YAGEO PHYCOMP; Manufacturer1 ComponentHeight: 0.4mm; HelpURL: \\cern.ch\dfs\Applications\Altium\Datasheets\R0402_Phycomp_RC0402.pdf; Author: CERN DEM JLC; CreateDate: 03.12.2007; LatestRevisionDate: 17.10.2012
footprint RESC1005X40N
pins: 1, 2

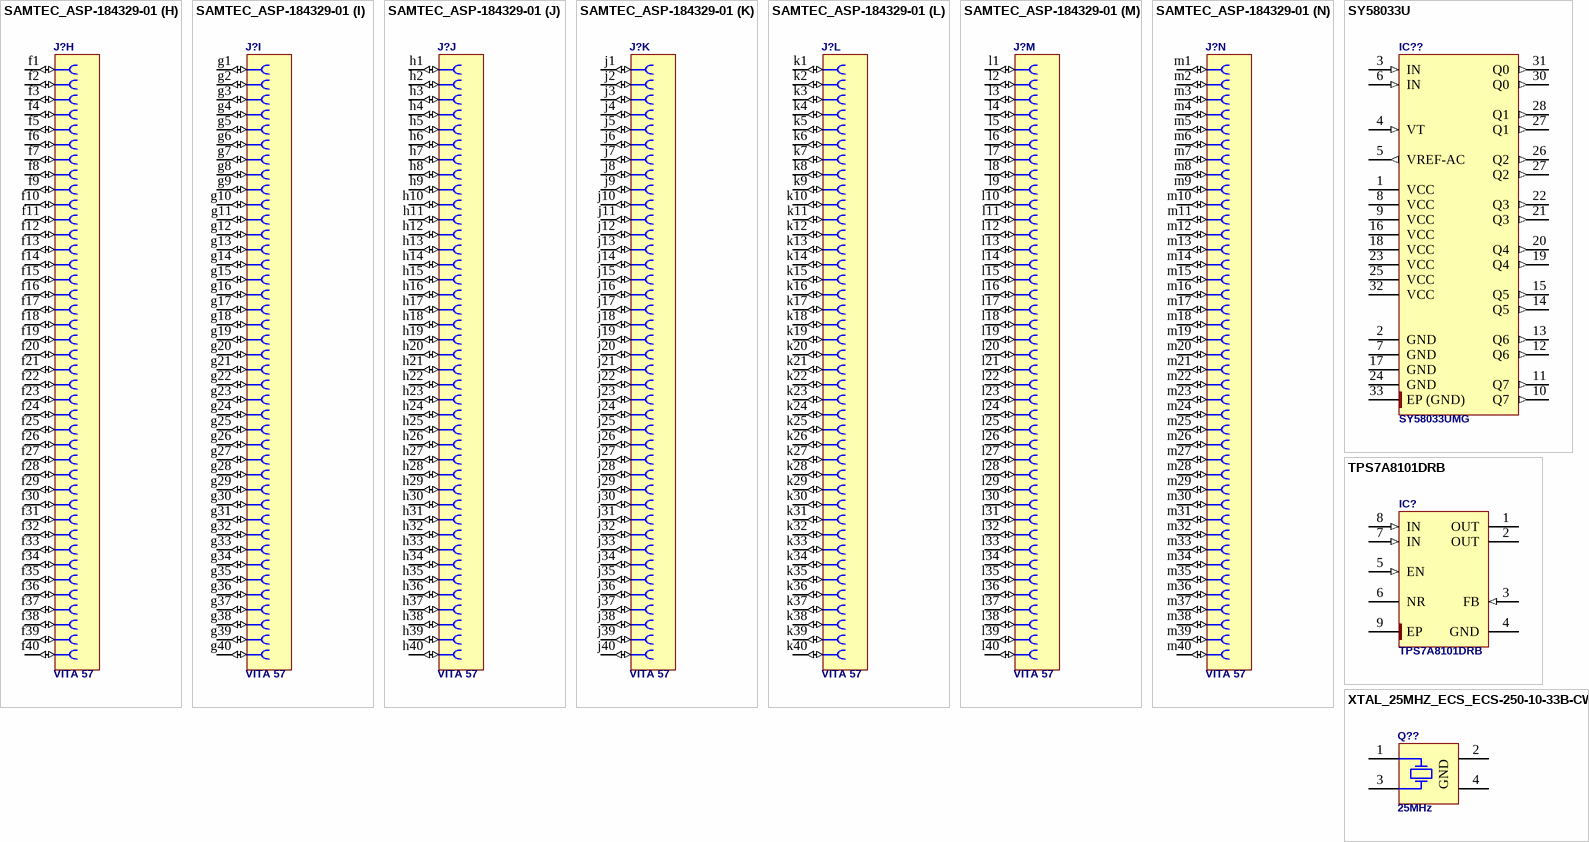
[diagram p2: symbols SAMTEC_ASP-184329-01 to XTAL_25MHZ_ECS_ECS-250-10-33B-CWN]

## SAMTEC_ASP-184329-01
designator J?, comment VITA 57
Connector VITA 57, 560 Female Contacts in 14 Rows (yzabcdefghjlm); Part Number: SAMTEC_ASP-184329-01; Part Description: 560 Contacts (14 Rows yzabcdefghjklm) Surface Mount Female Connector, VITA 57.4; Manufacturer: SAMTEC; Manufacturer Part Number: ASP-184329-01; PressFit: No; Component Kind: Standard; Component Type: Standard; Footprint: SAMTEC_ASP-184329-01; Pin Count: 560; Family: VITA 57; Mounted: Yes; Socket: No; SMD: Yes; Sense: No; Status: None; ComponentHeight: 6.55mm; HelpURL: \\cern.ch\dfs\Applications\Altium\Datasheets\SAMTEC_ASP-184329-01.pdf; Author: CERN DEM JMW; CreateDate: 24.01.2018; LatestRevisionDate: 24.01.2018
footprint SAMTEC_ASP-184329-01
part A pins: y1 (io), y2 (io), y3 (io), y4 (io), y5 (io), y6 (io), y7 (io), y8 (io), y9 (io), y10 (io), y11 (io), y12 (io), y13 (io), y14 (io), y15 (io), y16 (io), y17 (io), y18 (io), y19 (io), y20 (io), y21 (io), y22 (io), y23 (io), y24 (io), y25 (io), y26 (io), y27 (io), y28 (io), y29 (io), y30 (io), y31 (io), y32 (io), y33 (io), y34 (io), y35 (io), y36 (io), y37 (io), y38 (io), y39 (io), y40 (io)
part B pins: z1 (io), z2 (io), z3 (io), z4 (io), z5 (io), z6 (io), z7 (io), z8 (io), z9 (io), z10 (io), z11 (io), z12 (io), z13 (io), z14 (io), z15 (io), z16 (io), z17 (io), z18 (io), z19 (io), z20 (io), z21 (io), z22 (io), z23 (io), z24 (io), z25 (io), z26 (io), z27 (io), z28 (io), z29 (io), z30 (io), z31 (io), z32 (io), z33 (io), z34 (io), z35 (io), z36 (io), z37 (io), z38 (io), z39 (io), z40 (io)
part C pins: a1 (io), a2 (io), a3 (io), a4 (io), a5 (io), a6 (io), a7 (io), a8 (io), a9 (io), a10 (io), a11 (io), a12 (io), a13 (io), a14 (io), a15 (io), a16 (io), a17 (io), a18 (io), a19 (io), a20 (io), a21 (io), a22 (io), a23 (io), a24 (io), a25 (io), a26 (io), a27 (io), a28 (io), a29 (io), a30 (io), a31 (io), a32 (io), a33 (io), a34 (io), a35 (io), a36 (io), a37 (io), a38 (io), a39 (io), a40 (io)
part D pins: b1 (io), b2 (io), b3 (io), b4 (io), b5 (io), b6 (io), b7 (io), b8 (io), b9 (io), b10 (io), b11 (io), b12 (io), b13 (io), b14 (io), b15 (io), b16 (io), b17 (io), b18 (io), b19 (io), b20 (io), b21 (io), b22 (io), b23 (io), b24 (io), b25 (io), b26 (io), b27 (io), b28 (io), b29 (io), b30 (io), b31 (io), b32 (io), b33 (io), b34 (io), b35 (io), b36 (io), b37 (io), b38 (io), b39 (io), b40 (io)
part E pins: c1 (io), c2 (io), c3 (io), c4 (io), c5 (io), c6 (io), c7 (io), c8 (io), c9 (io), c10 (io), c11 (io), c12 (io), c13 (io), c14 (io), c15 (io), c16 (io), c17 (io), c18 (io), c19 (io), c20 (io), c21 (io), c22 (io), c23 (io), c24 (io), c25 (io), c26 (io), c27 (io), c28 (io), c29 (io), c30 (io), c31 (io), c32 (io), c33 (io), c34 (io), c35 (io), c36 (io), c37 (io), c38 (io), c39 (io), c40 (io)
part F pins: d1 (io), d2 (io), d3 (io), d4 (io), d5 (io), d6 (io), d7 (io), d8 (io), d9 (io), d10 (io), d11 (io), d12 (io), d13 (io), d14 (io), d15 (io), d16 (io), d17 (io), d18 (io), d19 (io), d20 (io), d21 (io), d22 (io), d23 (io), d24 (io), d25 (io), d26 (io), d27 (io), d28 (io), d29 (io), d30 (io), d31 (io), d32 (io), d33 (io), d34 (io), d35 (io), d36 (io), d37 (io), d38 (io), d39 (io), d40 (io)
part G pins: e1 (io), e2 (io), e3 (io), e4 (io), e5 (io), e6 (io), e7 (io), e8 (io), e9 (io), e10 (io), e11 (io), e12 (io), e13 (io), e14 (io), e15 (io), e16 (io), e17 (io), e18 (io), e19 (io), e20 (io), e21 (io), e22 (io), e23 (io), e24 (io), e25 (io), e26 (io), e27 (io), e28 (io), e29 (io), e30 (io), e31 (io), e32 (io), e33 (io), e34 (io), e35 (io), e36 (io), e37 (io), e38 (io), e39 (io), e40 (io)
part H pins: f1 (io), f2 (io), f3 (io), f4 (io), f5 (io), f6 (io), f7 (io), f8 (io), f9 (io), f10 (io), f11 (io), f12 (io), f13 (io), f14 (io), f15 (io), f16 (io), f17 (io), f18 (io), f19 (io), f20 (io), f21 (io), f22 (io), f23 (io), f24 (io), f25 (io), f26 (io), f27 (io), f28 (io), f29 (io), f30 (io), f31 (io), f32 (io), f33 (io), f34 (io), f35 (io), f36 (io), f37 (io), f38 (io), f39 (io), f40 (io)
part I pins: g1 (io), g2 (io), g3 (io), g4 (io), g5 (io), g6 (io), g7 (io), g8 (io), g9 (io), g10 (io), g11 (io), g12 (io), g13 (io), g14 (io), g15 (io), g16 (io), g17 (io), g18 (io), g19 (io), g20 (io), g21 (io), g22 (io), g23 (io), g24 (io), g25 (io), g26 (io), g27 (io), g28 (io), g29 (io), g30 (io), g31 (io), g32 (io), g33 (io), g34 (io), g35 (io), g36 (io), g37 (io), g38 (io), g39 (io), g40 (io)
part J pins: h1 (io), h2 (io), h3 (io), h4 (io), h5 (io), h6 (io), h7 (io), h8 (io), h9 (io), h10 (io), h11 (io), h12 (io), h13 (io), h14 (io), h15 (io), h16 (io), h17 (io), h18 (io), h19 (io), h20 (io), h21 (io), h22 (io), h23 (io), h24 (io), h25 (io), h26 (io), h27 (io), h28 (io), h29 (io), h30 (io), h31 (io), h32 (io), h33 (io), h34 (io), h35 (io), h36 (io), h37 (io), h38 (io), h39 (io), h40 (io)
part K pins: j1 (io), j2 (io), j3 (io), j4 (io), j5 (io), j6 (io), j7 (io), j8 (io), j9 (io), j10 (io), j11 (io), j12 (io), j13 (io), j14 (io), j15 (io), j16 (io), j17 (io), j18 (io), j19 (io), j20 (io), j21 (io), j22 (io), j23 (io), j24 (io), j25 (io), j26 (io), j27 (io), j28 (io), j29 (io), j30 (io), j31 (io), j32 (io), j33 (io), j34 (io), j35 (io), j36 (io), j37 (io), j38 (io), j39 (io), j40 (io)
part L pins: k1 (io), k2 (io), k3 (io), k4 (io), k5 (io), k6 (io), k7 (io), k8 (io), k9 (io), k10 (io), k11 (io), k12 (io), k13 (io), k14 (io), k15 (io), k16 (io), k17 (io), k18 (io), k19 (io), k20 (io), k21 (io), k22 (io), k23 (io), k24 (io), k25 (io), k26 (io), k27 (io), k28 (io), k29 (io), k30 (io), k31 (io), k32 (io), k33 (io), k34 (io), k35 (io), k36 (io), k37 (io), k38 (io), k39 (io), k40 (io)
part M pins: l1 (io), l2 (io), l3 (io), l4 (io), l5 (io), l6 (io), l7 (io), l8 (io), l9 (io), l10 (io), l11 (io), l12 (io), l13 (io), l14 (io), l15 (io), l16 (io), l17 (io), l18 (io), l19 (io), l20 (io), l21 (io), l22 (io), l23 (io), l24 (io), l25 (io), l26 (io), l27 (io), l28 (io), l29 (io), l30 (io), l31 (io), l32 (io), l33 (io), l34 (io), l35 (io), l36 (io), l37 (io), l38 (io), l39 (io), l40 (io)
part N pins: m1 (io), m2 (io), m3 (io), m4 (io), m5 (io), m6 (io), m7 (io), m8 (io), m9 (io), m10 (io), m11 (io), m12 (io), m13 (io), m14 (io), m15 (io), m16 (io), m17 (io), m18 (io), m19 (io), m20 (io), m21 (io), m22 (io), m23 (io), m24 (io), m25 (io), m26 (io), m27 (io), m28 (io), m29 (io), m30 (io), m31 (io), m32 (io), m33 (io), m34 (io), m35 (io), m36 (io), m37 (io), m38 (io), m39 (io), m40 (io)

## SY58033U
designator IC??, comment SY58033UMG
ULTRA-PRECISION 1:8 BUFFER WITH 400mV LVPECL OUTPUTS AND INTERNAL TERMINATION
pins: 1 VCC (power), 2 GND (power), 3 IN (in), 4 VT (in), 5 VREF-AC (out), 6 IN (in), 7 GND (power), 8 VCC (power), 9 VCC (power), 10 Q7 (out), 11 Q7 (out), 12 Q6 (out), 13 Q6 (out), 14 Q5 (out), 15 Q5 (out), 16 VCC (power), 17 GND (power), 18 VCC (power), 19 Q4 (out), 20 Q4 (out), 21 Q3 (out), 22 Q3 (out), 23 VCC (power), 24 GND (power), 25 VCC (power), 26 Q2 (out), 27 Q1 (out), 27 Q2 (out), 28 Q1 (out), 30 Q0 (out), 31 Q0 (out), 32 VCC (power), 33 EP (GND) (power)

## TPS7A8101DRB
designator IC?
0.8V to 6V, 1A, Low-Noise, Wide-Bandwidth, High PSRR, Low-Dropout Linear Regulator; Manufacturer: TEXAS INSTRUMENTS; PressFit: No; Bonding: No; Part Number: TPS7A8101DRB; Component Kind: Standard; Component Type: Standard; Device: TPS7A8101DRB; Footprint: TEXAS_DRB(S-PVSON-N8); PackageDescription: TEXAS Case Style DRB (S-PVSON-N8), SON, 0.65mm Pitch; 8 Pin, 3.00mm W X 3.00mm L X 1.00mm H body (w/Thermal Tab 1.60 X 1.85mm); Part Description: 0.8V to 6V, 1A, Low-Noise, Wide-Bandwidth, High PSRR, Low-Dropout Linear Regulator; Manufacturer Part Number: TPS7A8101DRB; Pin Count: 9; Case: SON8; Mounted: Yes; Socket: No; SMD: Yes; Sense: No; ComponentHeight: 1mm; HelpURL: \\cern.ch\dfs\Applications\Altium\Datasheets\TPS7A8101DRB.pdf; Author: CERN DEM BC; CreateDate: 18.02.2019; LatestRevisionDate: 18.02.2019
footprint TEXAS_DRB(S-PVSON-N8)
pins: 1 OUT (power), 2 OUT (power), 3 FB (in), 4 GND (power), 5 EN (in), 6 NR, 7 IN (in), 8 IN (in), 9 EP (power)

## XTAL_25MHZ_ECS_ECS-250-10-33B-CWN
designator Q??, comment 25MHz
Crystal 4 pins 1=XTAL Control 2=GND3=XTAL 4=GND; Part Number: XTAL_25MHZ_ECS_ECS-250-10-33B-CWN; Part Description: Tolerance: ±10ppm, Stability: ±15ppm, -40°C to +85°C, 10pF, Surface Mount Quartz Crystal, ECS-33B Series; Manufacturer: ECS; Manufacturer Part Number: ECS-250-10-33B-CWN; PressFit: No; Bonding: No; Component Kind: Standard; Component Type: Standard; Footprint: XTAL_ECS_ECS-33B; PackageDescription: SMD Crystal, Corner Concave; 4 Pins, 3.20mm L X 2.50mm W X 0.8mm H Body, ECS-33B Series; Value: 25MHz; Pin Count: 4; Mounted: Yes; Socket: No; SMD: Yes; Sense: No; ComponentHeight: 0.8mm; HelpURL: \\cern.ch\dfs\Applications\Altium\Datasheets\XTAL_ECS_ECS-33B.pdf; Author: CERN DEM BC; CreateDate: 11.09.2024; LatestRevisionDate: 11.09.2024
footprint XTAL_ECS_ECS-33B
pins: 1 X, 2 GND (power), 3 X, 4 GND (power)